# Altium footprint library acdc.PcbLib: 23 footprints (part 1 of 2)
Each footprint in its own frame and in the unit in brackets; x right, y up, seen from the top. Pads: shape width x height; smd on the part's side, far side on the other; paste and mask are expansions set on the pad; w line width, h text height; cw(c..) or ccw(c..) is an arc to the next point about the centre after c.
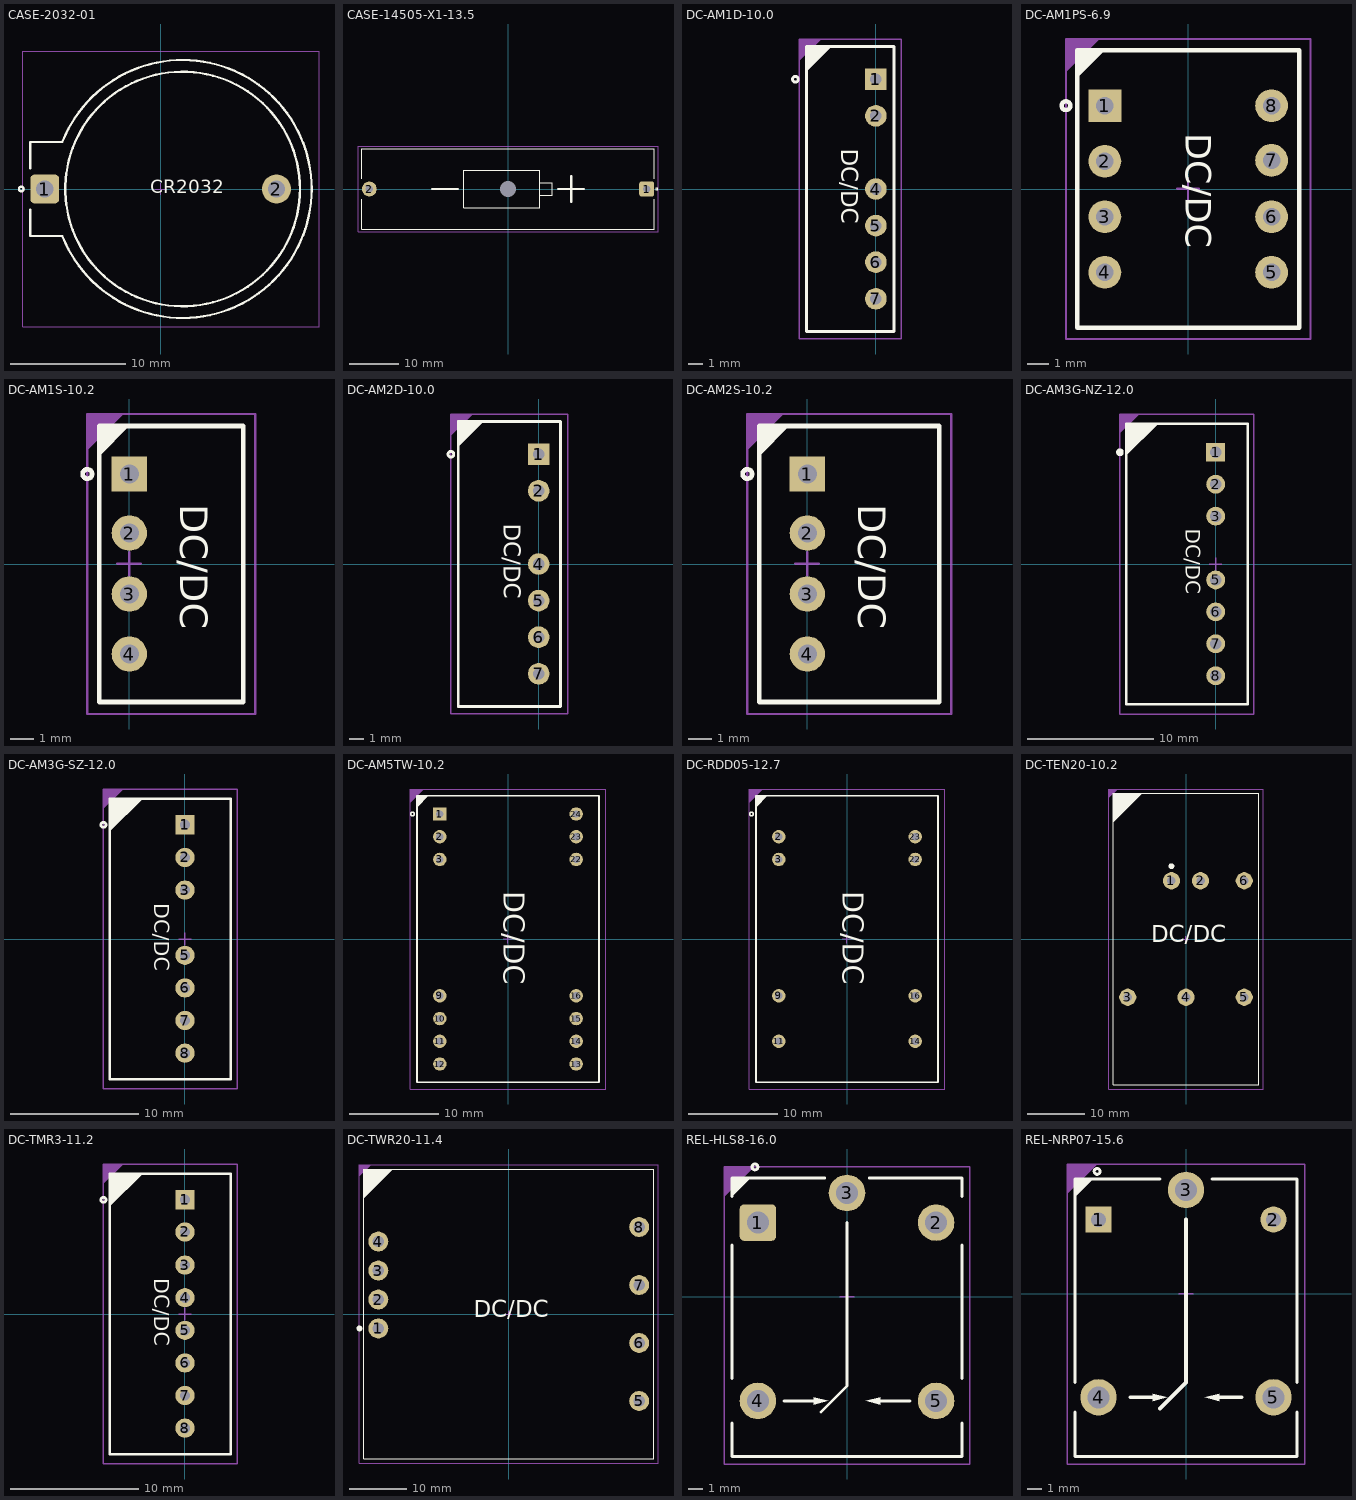
[diagram p0: the footprints below, top view; thin cyan lines are the x and y axes]

## CASE-2032-01 [mm]
pads (2):
  rrect30% 2.5x2.5 hole 1.5: 1(-10.033,0)
  round 2.5 hole 1.5: 2(10.033,0)
Top Overlay:
  circle w0.2: c-12.065,0 r0.2
  circle w0.2: c1.905,0 r10.16
  lines w0.2: -11.303,-1.778 -11.303,-4.064 -8.529,-4.064 ; -11.303,1.778 -11.303,4.064 -8.529,4.064 ; -8.49,-4.103 ccw(c1.905,0) -8.49,4.103
  text "CR2032" at -0.909,-0.762 h2
Mechanical 13:
  lines w0.1: -11.938,-11.938 13.716,-11.938 13.716,11.938 -11.938,11.938 -11.938,-11.938
  text ".Designator" at -4.064,-2.54 h5
Mechanical 15:
  lines w0.05: -11.938,-11.938 -11.938,11.938 13.716,11.938 13.716,-11.938 -11.938,-11.938
  lines w0.1: -0.5,0 0.5,0 ; 0,-0.5 0,0.5
3D body: height 8.8, standoff 0.1, extent -11.303,-4.064 -8.529,4.064
3D body: height 5.1, standoff 0.1, extent -9.271,-11.176 13.081,11.176

## CASE-14505-X1-13.5 [mm]
pads (3):
  round 0 hole 3.2: 0(0,0)
  rrect30% 3x3 hole 1.5: 1(27.94,0)
  round 3 hole 1.5: 2(-27.94,0)
Top Overlay:
  circle w0.2: c29.972,0 r0.2
  lines w0.2: -29.464,-2.032 -29.464,-8.128 29.464,-8.128 29.464,-2.032 ; -29.464,2.032 -29.464,8.128 29.464,8.128 29.464,2.032 ; 6.35,-1.27 8.89,-1.27 8.89,1.27 6.35,1.27 ; -8.89,-3.81 6.35,-3.81 6.35,3.81 -8.89,3.81 -8.89,-3.81
  lines w0.5: -15.24,0 -10.16,0 ; 10.16,0 15.24,0 ; 12.7,-2.54 12.7,2.54
Mechanical 13:
  lines w0.1: -30.226,-8.636 30.226,-8.636 30.226,8.636 -30.226,8.636 -30.226,-8.636
  text ".Designator" at -4.064,-2.54 h5
Mechanical 15:
  lines w0.05: -30.226,-8.636 -30.226,8.636 30.226,8.636 30.226,-8.636 -30.226,-8.636
  lines w0.1: -0.5,0 0.5,0 ; 0,-0.5 0,0.5
3D body: height 14, standoff 1, extent 28.702,-8.128 29.464,8.128
3D body: height 14, standoff 1, extent -29.464,-8.128 -28.702,8.128
3D body: height 14, standoff 1, extent -28.702,-8.128 28.702,-7.366
3D body: height 14, standoff 1, extent -28.702,7.366 28.702,8.128
3D body: height 1, standoff 0.1, extent -29.464,-8.128 29.464,8.128

## DC-AM1D-10.0 [mm]
pads (6):
  rect 1.5x1.5 hole 0.8: 1(0,7.62)
  round 1.5 hole 0.8: 2(0,5.08) 4(0,0) 5(0,-2.54) 6(0,-5.08) 7(0,-7.62)
Top Overlay:
  circle w0.2: c-5.588,7.62 r0.2
  region: -4.826,9.906 -3.048,9.906 -4.826,8.128
  lines w0.2: -4.826,-9.906 1.27,-9.906 1.27,9.906 -4.826,9.906 -4.826,-9.906
  text "DC/DC" at -2.794,2.794 h2
Mechanical 13:
  region: -5.334,10.414 -5.334,8.89 -3.81,10.414
  lines w0.1: -5.334,-10.414 1.778,-10.414 1.778,10.414 -5.334,10.414 -5.334,-10.414
  text ".Designator" at -3.302,2.286 h2
Mechanical 15:
  lines w0.05: -5.334,-10.414 1.778,-10.414 1.778,10.414 -5.334,10.414 -5.334,-10.414
  lines w0.1: -0.5,0 0.5,0 ; 0,-0.5 0,0.5
3D body: height 10, standoff 0.1, extent -4.826,-9.779 1.27,9.779

## DC-AM1PS-6.9 [mm]
pads (8):
  rect 1.5x1.5 hole 0.8: 1(-3.81,3.81)
  round 1.5 hole 0.8: 2(-3.81,1.27) 3(-3.81,-1.27) 4(-3.81,-3.81) 5(3.81,-3.81) 6(3.81,-1.27) 7(3.81,1.31) 8(3.81,3.81)
Top Overlay:
  circle w0.2: c-5.588,3.81 r0.2
  region: -5.08,6.35 -3.81,6.35 -5.08,5.08
  lines w0.2: -5.08,-6.35 -5.08,6.35 5.08,6.35 5.08,-6.35 -5.08,-6.35
  text "DC/DC" at -0.508,2.56 h2
Mechanical 13:
  region: -5.588,6.858 -5.588,5.334 -4.064,6.858
  lines w0.1: -5.588,-6.858 -5.588,6.858 5.588,6.858 5.588,-6.858 -5.588,-6.858
  text ".Designator" at -1.524,-1.016 h2
Mechanical 15:
  lines w0.05: -5.588,-6.858 5.588,-6.858 5.588,6.858 -5.588,6.858 -5.588,-6.858
  lines w0.1: -0.51,0.01 0.49,0.01 ; -0.01,-0.49 -0.01,0.51
3D body: height 7.1, standoff 0.1, extent -5.08,-6.35 5.08,6.35

## DC-AM1S-10.2 [mm]
pads (4):
  rect 1.5x1.5 hole 0.8: 1(0,3.81)
  round 1.5 hole 0.8: 2(0,1.31) 3(0,-1.27) 4(0,-3.81)
Top Overlay:
  circle w0.2: c-1.778,3.81 r0.2
  region: -1.27,5.842 0,5.842 -1.27,4.572
  lines w0.2: -1.27,-5.842 -1.27,5.842 4.826,5.842 4.826,-5.842 -1.27,-5.842
  text "DC/DC" at 1.778,2.54 h2
Mechanical 13:
  region: -1.778,6.35 -1.778,4.826 -0.254,6.35
  lines w0.1: -1.778,-6.35 5.334,-6.35 5.334,6.35 -1.778,6.35 -1.778,-6.35
  text ".Designator" at 1.016,-0.508 h2
Mechanical 15:
  lines w0.05: -1.778,-6.35 5.334,-6.35 5.334,6.35 -1.778,6.35 -1.778,-6.35
  lines w0.1: -0.51,0.01 0.49,0.01 ; -0.01,-0.49 -0.01,0.51
3D body: height 10.5, standoff 0.1, extent -1.27,-5.842 4.8,5.842

## DC-AM2D-10.0 [mm]
pads (6):
  rect 1.5x1.5 hole 0.8: 1(0,7.62)
  round 1.5 hole 0.8: 2(0,5.08) 4(0,0) 5(0,-2.54) 6(0,-5.08) 7(0,-7.62)
Top Overlay:
  circle w0.2: c-6.096,7.62 r0.2
  region: -5.588,9.906 -3.81,9.906 -5.588,8.128
  lines w0.2: -5.588,-9.906 1.524,-9.906 1.524,9.906 -5.588,9.906 -5.588,-9.906
  text "DC/DC" at -2.794,2.794 h2
Mechanical 13:
  region: -6.096,10.414 -6.096,8.89 -4.572,10.414
  lines w0.1: -6.096,-10.414 2.032,-10.414 2.032,10.414 -6.096,10.414 -6.096,-10.414
  text ".Designator" at -3.302,2.286 h2
Mechanical 15:
  lines w0.05: -6.096,-10.414 2.032,-10.414 2.032,10.414 -6.096,10.414 -6.096,-10.414
  lines w0.1: -0.5,0 0.5,0 ; 0,-0.5 0,0.5
3D body: height 10, standoff 0.1, extent -5.588,-9.779 1.524,9.779

## DC-AM2S-10.2 [mm]
pads (4):
  rect 1.5x1.5 hole 0.8: 1(0,3.81)
  round 1.5 hole 0.8: 2(0,1.31) 3(0,-1.27) 4(0,-3.81)
Top Overlay:
  circle w0.2: c-2.54,3.81 r0.2
  region: -2.032,5.842 -0.762,5.842 -2.032,4.572
  lines w0.2: -2.032,-5.842 -2.032,5.842 5.588,5.842 5.588,-5.842 -2.032,-5.842
  text "DC/DC" at 1.778,2.54 h2
Mechanical 13:
  region: -2.54,6.35 -2.54,4.826 -1.016,6.35
  lines w0.1: -2.54,-6.35 -2.54,6.35 6.096,6.35 6.096,-6.35 -2.54,-6.35
  text ".Designator" at 0.762,-0.762 h2
Mechanical 15:
  lines w0.05: -2.54,-6.35 -2.54,6.35 6.096,6.35 6.096,-6.35 -2.54,-6.35
  lines w0.1: -0.51,0.01 0.49,0.01 ; -0.01,-0.49 -0.01,0.51
3D body: height 10.5, standoff 0.1, extent -2.032,-5.842 5.588,5.842

## DC-AM3G-NZ-12.0 [mm]
pads (7):
  rect 1.5x1.5 hole 0.9: 1(0,8.89)
  round 1.5 hole 0.9: 2(0,6.35) 3(0,3.81) 5(0,-1.27) 6(0,-3.81) 7(0,-6.35) 8(0,-8.89)
Top Overlay:
  circle w0.3: c-7.62,8.89 r0.15
  region: -7.112,11.176 -4.572,11.176 -7.112,8.636
  lines w0.2: -7.112,-11.176 2.54,-11.176 2.54,11.176 -7.112,11.176 -7.112,-11.176
  text "DC/DC" at -2.794,2.794 h2
Mechanical 13:
  region: -7.62,11.938 -7.62,10.414 -6.096,11.938
  lines w0.1: -7.62,-11.938 3.048,-11.938 3.048,11.938 -7.62,11.938 -7.62,-11.938
  text ".Designator" at -3.048,2.286 h2
Mechanical 15:
  lines w0.05: -7.62,-11.938 3.048,-11.938 3.048,11.938 -7.62,11.938 -7.62,-11.938
  lines w0.1: -0.5,0 0.5,0 ; 0,-0.5 0,0.5
3D body: height 12.1, standoff 0.1, extent -7.112,-11.176 2.54,11.176

## DC-AM3G-SZ-12.0 [mm]
pads (7):
  rect 1.5x1.5 hole 0.8: 1(0,8.89)
  round 1.5 hole 0.8: 2(0,6.35) 3(0,3.81) 5(0,-1.27) 6(0,-3.81) 7(0,-6.35) 8(0,-8.89)
Top Overlay:
  circle w0.2: c-6.35,8.89 r0.2
  region: -5.842,10.922 -3.302,10.922 -5.842,8.382
  lines w0.2: -5.842,-10.922 -5.842,10.922 3.556,10.922 3.556,-10.922 -5.842,-10.922
  text "DC/DC" at -2.794,2.794 h2
Mechanical 13:
  region: -6.35,11.684 -6.35,10.16 -4.826,11.684
  lines w0.1: -6.35,-11.684 -6.35,11.684 4.064,11.684 4.064,-11.684 -6.35,-11.684
  text ".Designator" at -3.048,2.286 h2
Mechanical 15:
  lines w0.05: -6.35,-11.684 -6.35,11.684 4.064,11.684 4.064,-11.684 -6.35,-11.684
  lines w0.1: -0.5,0 0.5,0 ; 0,-0.5 0,0.5
3D body: height 12.1, standoff 0.1, extent -5.842,-10.922 3.556,10.922

## DC-AM5TW-10.2 [mm]
pads (14):
  rect 1.5x1.5 hole 0.8: 1(-7.62,13.97)
  round 1.5 hole 0.8: 2(-7.62,11.43) 3(-7.62,8.89) 9(-7.62,-6.35) 10(-7.62,-8.89) 11(-7.62,-11.43) 12(-7.62,-13.97) 13(7.62,-13.97) 14(7.62,-11.43) 15(7.62,-8.89) 16(7.62,-6.35) 22(7.62,8.89) 23(7.62,11.43) 24(7.62,13.97)
Top Overlay:
  circle w0.2: c-10.668,13.97 r0.2
  region: -10.16,16.002 -8.89,16.002 -10.16,14.732
  lines w0.2: -10.16,-16.002 -10.16,16.002 10.16,16.002 10.16,-16.002 -10.16,-16.002
  text "DC/DC" at -1.27,5.334 h4
Mechanical 13:
  region: -10.922,16.764 -10.922,15.24 -9.398,16.764
  lines w0.1: -10.922,-16.764 -10.922,16.764 10.922,16.764 10.922,-16.764 -10.922,-16.764
  text ".Designator" at -2.54,3.556 h5
Mechanical 15:
  lines w0.05: -10.922,-16.764 -10.922,16.764 10.922,16.764 10.922,-16.764 -10.922,-16.764
  lines w0.1: -0.51,0.01 0.49,0.01 ; -0.01,-0.49 -0.01,0.51
3D body: height 10.5, standoff 0.1, extent -10.16,-16.002 10.16,16.002

## DC-RDD05-12.7 [mm]
pads (8):
  round 1.5 hole 0.8: 2(-7.62,11.43) 3(-7.62,8.89) 9(-7.62,-6.35) 11(-7.62,-11.43) 14(7.62,-11.43) 16(7.62,-6.35) 22(7.62,8.89) 23(7.62,11.43)
Top Overlay:
  circle w0.2: c-10.668,13.97 r0.2
  region: -10.16,16.002 -8.89,16.002 -10.16,14.732
  lines w0.2: -10.16,-16.002 -10.16,16.002 10.16,16.002 10.16,-16.002 -10.16,-16.002
  text "DC/DC" at -1.27,5.334 h4
Mechanical 13:
  region: -10.922,16.764 -10.922,15.24 -9.398,16.764
  lines w0.1: -10.922,-16.764 10.922,-16.764 10.922,16.764 -10.922,16.764 -10.922,-16.764
  text ".Designator" at -2.54,3.556 h5
Mechanical 15:
  lines w0.05: -10.922,-16.764 -10.922,16.764 10.922,16.764 10.922,-16.764 -10.922,-16.764
  lines w0.1: -0.51,0.01 0.49,0.01 ; -0.01,-0.49 -0.01,0.51
3D body: height 13, standoff 0.1, extent -10.16,-16.002 10.16,16.002

## DC-TEN20-10.2 [mm]
pads (6):
  round 3 hole 1.5: 1(-2.54,10.16) 2(2.54,10.16) 3(-10.16,-10.16) 4(0,-10.16) 5(10.16,-10.16) 6(10.16,10.16)
Top Overlay:
  circle w0.508: c-2.54,12.7 r0.254
  region: -12.7,25.4 -7.62,25.4 -12.7,20.32
  lines w0.2: -12.7,-25.4 -12.7,25.4 12.7,25.4 12.7,-25.4 -12.7,-25.4
  text "DC/DC" at -6.096,-1.524 h5
Mechanical 13:
  region: -13.462,26.162 -13.462,24.638 -11.938,26.162
  lines w0.1: -13.462,-26.162 -13.462,26.162 13.462,26.162 13.462,-26.162 -13.462,-26.162
  text ".Designator" at -5.842,-2.54 h5
Mechanical 15:
  lines w0.05: -13.462,-26.162 -13.462,26.162 13.462,26.162 13.462,-26.162 -13.462,-26.162
  lines w0.1: -0.5,0 0.5,0 ; 0,-0.5 0,0.5
3D body: height 10.5, standoff 0.1, extent -12.7,-25.4 12.7,25.4

## DC-TMR3-11.2 [mm]
pads (8):
  rect 1.5x1.5 hole 0.8: 1(0,8.89)
  round 1.5 hole 0.8: 2(0,6.39) 3(0,3.81) 4(0,1.27) 5(0,-1.27) 6(0,-3.81) 7(0,-6.35) 8(0,-8.89)
Top Overlay:
  circle w0.2: c-6.35,8.89 r0.2
  region: -5.842,10.922 -3.302,10.922 -5.842,8.382
  lines w0.2: -5.842,-10.922 -5.842,10.922 3.556,10.922 3.556,-10.922 -5.842,-10.922
  text "DC/DC" at -2.794,2.794 h2
Mechanical 13:
  region: -6.35,11.684 -6.35,10.16 -4.826,11.684
  lines w0.1: -6.35,-11.684 -6.35,11.684 4.064,11.684 4.064,-11.684 -6.35,-11.684
  text ".Designator" at -3.048,2.286 h2
Mechanical 15:
  lines w0.05: -6.35,-11.684 -6.35,11.684 4.064,11.684 4.064,-11.684 -6.35,-11.684
  lines w0.1: -0.5,0 0.5,0 ; 0,-0.5 0,0.5
3D body: height 11.5, standoff 0.1, extent -5.842,-10.922 3.556,10.922

## DC-TWR20-11.4 [mm]
pads (8):
  round 3.5 hole 2: 1(-22.86,-2.54) 2(-22.86,2.54) 3(-22.86,7.62) 4(-22.86,12.7) 5(22.86,-15.24) 6(22.86,-5.08) 7(22.86,5.08) 8(22.86,15.24)
Top Overlay:
  circle w0.508: c-26.162,-2.54 r0.254
  region: -25.4,25.4 -20.32,25.4 -25.4,20.32
  lines w0.2: -25.4,-25.4 25.4,-25.4 25.4,25.4 -25.4,25.4 -25.4,-25.4
  text "DC/DC" at -6.096,-1.524 h5
Mechanical 13:
  region: -26.162,26.162 -26.162,24.13 -24.13,26.162
  lines w0.1: -26.162,-26.162 26.162,-26.162 26.162,26.162 -26.162,26.162 -26.162,-26.162
  text ".Designator" at -5.842,-2.54 h5
Mechanical 15:
  lines w0.05: -26.162,-26.162 26.162,-26.162 26.162,26.162 -26.162,26.162 -26.162,-26.162
  lines w0.1: -0.5,0 0.5,0 ; 0,-0.5 0,0.5
3D body: height 12, standoff 0.1, extent -25.4,-25.4 25.4,25.4

## REL-HLS8-16.0 [mm]
pads (5):
  rrect25% 2.5x2.5 hole 1.5: 1(-6.096,5.08)
  round 2.5 hole 1.5: 2(6.096,5.08) 3(0,7.112) 4(-6.096,-7.112) 5(6.096,-7.112)
Top Overlay:
  circle w0.2: c-6.296,8.89 r0.2
  region: -2.286,-7.366 -2.286,-6.858 -1.27,-7.112
  region: 2.286,-7.366 2.286,-6.858 1.27,-7.112
  region: -7.874,8.128 -6.604,8.128 -7.874,6.858
  lines w0.2: -7.874,-8.636 -7.874,-10.922 7.874,-10.922 7.874,-8.636 ; -7.874,-5.588 -7.874,3.556 ; -7.874,6.858 -7.874,8.128 -1.524,8.128 ; -7.112,5.588 -6.35,4.826 ; -4.318,-7.112 -2.286,-7.112 ; -1.778,-7.874 0,-6.096 0,5.08 ; 1.524,8.128 7.874,8.128 7.874,6.858 ; 2.286,-7.112 4.318,-7.112 ; 7.874,-5.588 7.874,3.556
Mechanical 13:
  region: -8.382,8.89 -8.382,6.858 -6.35,8.89
  lines w0.1: -8.382,-11.43 8.382,-11.43 8.382,8.89 -8.382,8.89 -8.382,-11.43
  text ".Designator" at -2.286,-1.016 h2
Mechanical 15:
  lines w0.05: -8.382,-11.43 8.382,-11.43 8.382,8.89 -8.382,8.89 -8.382,-11.43
  lines w0.1: -0.5,0 0.5,0 ; 0,-0.5 0,0.5
3D body: height 16, standoff 0.1, extent -7.874,-10.922 7.874,8.128

## REL-NRP07-15.6 [mm]
pads (5):
  rect 1.8x1.8 hole 1: 1(-6,5.08)
  round 1.8 hole 1: 2(6,5.08)
  round 2.5 hole 1.5: 3(0,7.112) 4(-6,-7.112) 5(6,-7.112)
Top Overlay:
  circle w0.2: c-6.096,8.382 r0.2
  region: -2.286,-7.366 -2.286,-6.858 -1.27,-7.112
  region: 2.286,-7.366 2.286,-6.858 1.27,-7.112
  region: -7.62,7.874 -6.35,7.874 -7.62,6.604
  lines w0.2: -7.62,-8.128 -7.62,-11.176 7.62,-11.176 7.62,-8.128 ; -7.62,-6.096 -7.62,7.874 -1.778,7.874 ; 1.778,7.874 7.62,7.874 7.62,-6.096
  lines w0.254: -3.81,-7.112 -2.286,-7.112 ; -1.778,-7.874 0,-6.096 0,5.08 ; 2.286,-7.112 3.81,-7.112
Mechanical 13:
  region: -8.128,8.89 -8.128,6.858 -6.096,8.89
  lines w0.1: -8.128,-11.684 -8.128,8.89 8.128,8.89 8.128,-11.684 -8.128,-11.684
  text ".Designator" at -2.286,-1.016 h2
Mechanical 15:
  lines w0.05: -8.128,-11.684 -8.128,8.89 8.128,8.89 8.128,-11.684 -8.128,-11.684
  lines w0.1: -0.5,0 0.5,0 ; 0,-0.5 0,0.5
3D body: height 16, standoff 0.1, extent -7.62,-11.176 7.62,7.874